# Altium schematic symbol library Communication.SchLib: 5 symbols
Pins are listed as number, name and electrical type; pins without a type are passive.

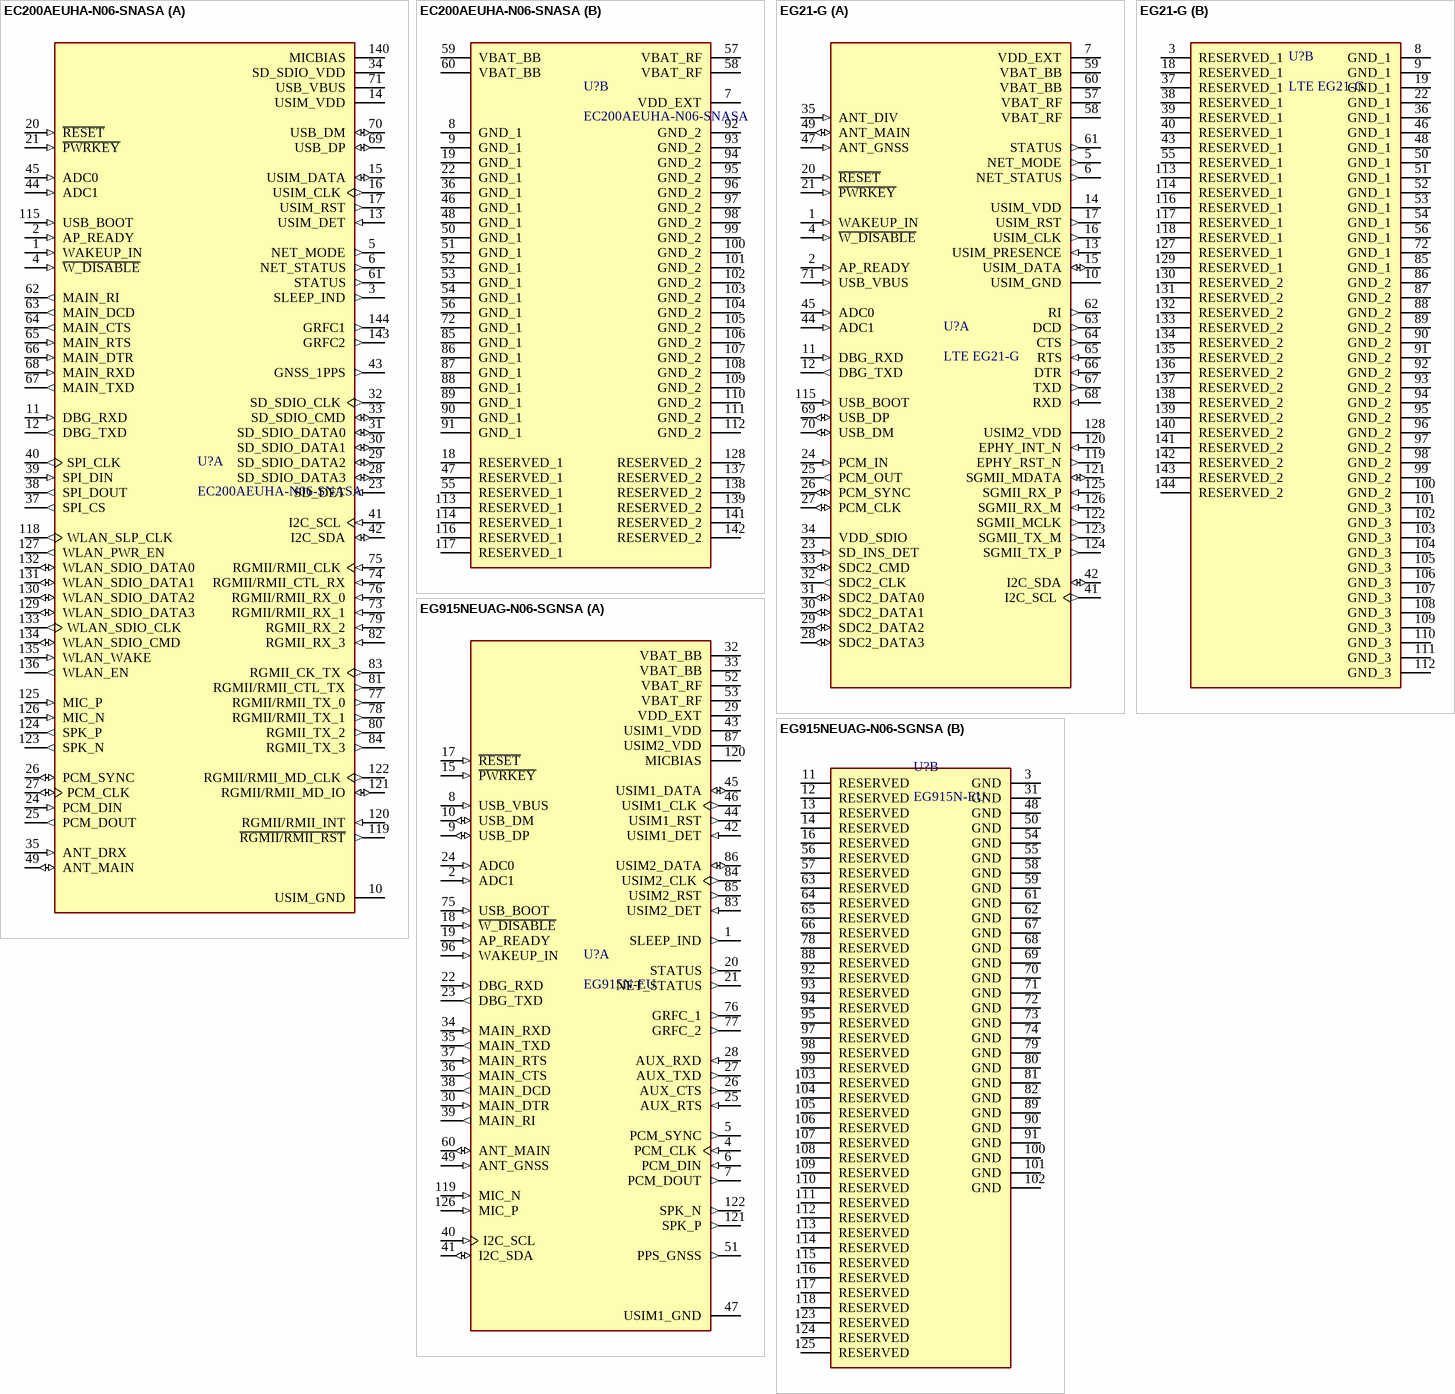
[diagram p0: symbols EC200AEUHA-N06-SNASA to EG915NEUAG-N06-SGNSA]

## EC200AEUHA-N06-SNASA
designator U?
Quectel Wireless Solutions Embedded, 700-960, 1710-2700, 3300-5000, 5G, FPC with holder, -, Spring contact, Screw, 60.1 12.25 10.1; val: EC200AEUHA-N06-SNASA; note: *; sample link: https://www.quectel.com/product/lte-ec200a-series/
footprint XCVR_EC200AEUHA-N06-SNASA
part A pins: 1 WAKEUP_IN (in), 2 AP_READY (in), 3 SLEEP_IND (out), 4 ~{W_DISABLE} (in), 5 NET_MODE (out), 6 NET_STATUS (out), 10 USIM_GND (power), 11 DBG_RXD (in), 12 DBG_TXD (out), 13 USIM_DET (in), 14 USIM_VDD (power), 15 USIM_DATA (io), 16 USIM_CLK (out), 17 USIM_RST (out), 20 ~{RESET} (in), 21 ~{PWRKEY} (in), 23 SD_DET (in), 24 PCM_DIN (in), 25 PCM_DOUT (out), 26 PCM_SYNC (io), 27 PCM_CLK (io), 28 SD_SDIO_DATA3 (io), 29 SD_SDIO_DATA2 (io), 30 SD_SDIO_DATA1 (io), 31 SD_SDIO_DATA0 (io), 32 SD_SDIO_CLK (out), 33 SD_SDIO_CMD (io), 34 SD_SDIO_VDD (power), 35 ANT_DRX (in), 37 SPI_CS (out), 38 SPI_DOUT (out), 39 SPI_DIN (in), 40 SPI_CLK (out), 41 I2C_SCL (in), 42 I2C_SDA (io), 43 GNSS_1PPS (out), 44 ADC1 (in), 45 ADC0 (in), 49 ANT_MAIN (io), 61 STATUS (out), 62 MAIN_RI (out), 63 MAIN_DCD (out), 64 MAIN_CTS (out), 65 MAIN_RTS (in), 66 MAIN_DTR (in), 67 MAIN_TXD (out), 68 MAIN_RXD (in), 69 USB_DP (io), 70 USB_DM (io), 71 USB_VBUS (power), 73 RGMII/RMII_RX_1 (in), 74 RGMII/RMII_CTL_RX (in), 75 RGMII/RMII_CLK (in), 76 RGMII/RMII_RX_0 (in), 77 RGMII/RMII_TX_0 (out), 78 RGMII/RMII_TX_1 (out), 79 RGMII_RX_2 (in), 80 RGMII_TX_2 (out), 81 RGMII/RMII_CTL_TX (out), 82 RGMII_RX_3 (in), 83 RGMII_CK_TX (out), 84 RGMII_TX_3 (out), 115 USB_BOOT (in), 118 WLAN_SLP_CLK (out), 119 ~{RGMII/RMII_RST} (out), 120 RGMII/RMII_INT (in), 121 RGMII/RMII_MD_IO (io), 122 RGMII/RMII_MD_CLK (out), 123 SPK_N (out), 124 SPK_P (out), 125 MIC_P (in), 126 MIC_N (in), 127 WLAN_PWR_EN (out), 129 WLAN_SDIO_DATA3 (io), 130 WLAN_SDIO_DATA2 (io), 131 WLAN_SDIO_DATA1 (io), 132 WLAN_SDIO_DATA0 (io), 133 WLAN_SDIO_CLK (out), 134 WLAN_SDIO_CMD (io), 135 WLAN_WAKE (in), 136 WLAN_EN (out), 140 MICBIAS (power), 143 GRFC2 (out), 144 GRFC1 (out)
part B pins: 7 VDD_EXT (power), 8 GND_1 (power), 9 GND_1 (power), 18 RESERVED_1, 19 GND_1 (power), 22 GND_1 (power), 36 GND_1 (power), 46 GND_1 (power), 47 RESERVED_1, 48 GND_1 (power), 50 GND_1 (power), 51 GND_1 (power), 52 GND_1 (power), 53 GND_1 (power), 54 GND_1 (power), 55 RESERVED_1, 56 GND_1 (power), 57 VBAT_RF (power), 58 VBAT_RF (power), 59 VBAT_BB (power), 60 VBAT_BB (power), 72 GND_1 (power), 85 GND_1 (power), 86 GND_1 (power), 87 GND_1 (power), 88 GND_1 (power), 89 GND_1 (power), 90 GND_1 (power), 91 GND_1 (power), 92 GND_2 (power), 93 GND_2 (power), 94 GND_2 (power), 95 GND_2 (power), 96 GND_2 (power), 97 GND_2 (power), 98 GND_2 (power), 99 GND_2 (power), 100 GND_2 (power), 101 GND_2 (power), 102 GND_2 (power), 103 GND_2 (power), 104 GND_2 (power), 105 GND_2 (power), 106 GND_2 (power), 107 GND_2 (power), 108 GND_2 (power), 109 GND_2 (power), 110 GND_2 (power), 111 GND_2 (power), 112 GND_2 (power), 113 RESERVED_1, 114 RESERVED_1, 116 RESERVED_1, 117 RESERVED_1, 128 RESERVED_2, 137 RESERVED_2, 138 RESERVED_2, 139 RESERVED_2, 141 RESERVED_2, 142 RESERVED_2

## EG21-G
designator U?, comment LTE EG21-G
The EG21-G is an LTE category 1 module in an LGA form factor measuring 29.0mm x 32.0mm x 2.4mm, which meets the 3GPP Release 11 standard. It is compatible with Quectel’s UMTS/HSPA+ UC20 and UC200T modules, and multi-mode LTE Standard EC2x (EC25, EC21, EC20 R2.0 and EC20 R2.1) and EG25-G modules, enabling flexible migration between them.; val: LTE EG21-G; note: *; sample link: https://www.quectel.com/product/lte-eg21-g/
footprint XCVR_EG21-G
part A pins: 1 WAKEUP_IN (in), 2 AP_READY (in), 4 ~{W_DISABLE} (in), 5 NET_MODE (out), 6 NET_STATUS (out), 7 VDD_EXT (power), 10 USIM_GND (power), 11 DBG_RXD (in), 12 DBG_TXD (out), 13 USIM_PRESENCE (in), 14 USIM_VDD (power), 15 USIM_DATA (io), 16 USIM_CLK (out), 17 USIM_RST (out), 20 ~{RESET} (in), 21 ~{PWRKEY} (in), 23 SD_INS_DET (in), 24 PCM_IN (in), 25 PCM_OUT (out), 26 PCM_SYNC (io), 27 PCM_CLK (io), 28 SDC2_DATA3 (io), 29 SDC2_DATA2 (io), 30 SDC2_DATA1 (io), 31 SDC2_DATA0 (io), 32 SDC2_CLK (out), 33 SDC2_CMD (io), 34 VDD_SDIO (power), 35 ANT_DIV (in), 41 I2C_SCL (out), 42 I2C_SDA (io), 44 ADC1 (in), 45 ADC0 (in), 47 ANT_GNSS (in), 49 ANT_MAIN (io), 57 VBAT_RF (power), 58 VBAT_RF (power), 59 VBAT_BB (power), 60 VBAT_BB (power), 61 STATUS (out), 62 RI (out), 63 DCD (out), 64 CTS (out), 65 RTS (in), 66 DTR (in), 67 TXD (out), 68 RXD (in), 69 USB_DP (io), 70 USB_DM (io), 71 USB_VBUS (in), 115 USB_BOOT (in), 119 EPHY_RST_N (out), 120 EPHY_INT_N (in), 121 SGMII_MDATA (io), 122 SGMII_MCLK (out), 123 SGMII_TX_M (out), 124 SGMII_TX_P (out), 125 SGMII_RX_P (in), 126 SGMII_RX_M (in), 128 USIM2_VDD (power)
part B pins: 3 RESERVED_1, 8 GND_1 (power), 9 GND_1 (power), 18 RESERVED_1, 19 GND_1 (power), 22 GND_1 (power), 36 GND_1 (power), 37 RESERVED_1, 38 RESERVED_1, 39 RESERVED_1, 40 RESERVED_1, 43 RESERVED_1, 46 GND_1 (power), 48 GND_1 (power), 50 GND_1 (power), 51 GND_1 (power), 52 GND_1 (power), 53 GND_1 (power), 54 GND_1 (power), 55 RESERVED_1, 56 GND_1 (power), 72 GND_1 (power), 85 GND_1 (power), 86 GND_2 (power), 87 GND_2 (power), 88 GND_2 (power), 89 GND_2 (power), 90 GND_2 (power), 91 GND_2 (power), 92 GND_2 (power), 93 GND_2 (power), 94 GND_2 (power), 95 GND_2 (power), 96 GND_2 (power), 97 GND_2 (power), 98 GND_2 (power), 99 GND_2 (power), 100 GND_2 (power), 101 GND_3 (power), 102 GND_3 (power), 103 GND_3 (power), 104 GND_3 (power), 105 GND_3 (power), 106 GND_3 (power), 107 GND_3 (power), 108 GND_3 (power), 109 GND_3 (power), 110 GND_3 (power), 111 GND_3 (power), 112 GND_3 (power), 113 RESERVED_1, 114 RESERVED_1, 116 RESERVED_1, 117 RESERVED_1, 118 RESERVED_1, 127 RESERVED_1, 129 RESERVED_1, 130 RESERVED_2, 131 RESERVED_2, 132 RESERVED_2, 133 RESERVED_2, 134 RESERVED_2, 135 RESERVED_2, 136 RESERVED_2, 137 RESERVED_2, 138 RESERVED_2, 139 RESERVED_2, 140 RESERVED_2, 141 RESERVED_2, 142 RESERVED_2, 143 RESERVED_2, 144 RESERVED_2

## EG915NEUAG-N06-SGNSA
designator U?, comment EG915N-EU
LTE Cat 1 module; note: Original; val: EG915N-EU; sample link: *
footprint XCVR_EG915NEUAG-N06-SGNSA
part A pins: 1 SLEEP_IND (out), 2 ADC1 (in), 4 PCM_CLK (in), 5 PCM_SYNC (out), 6 PCM_DIN (in), 7 PCM_DOUT (out), 8 USB_VBUS (in), 9 USB_DP (io), 10 USB_DM (io), 15 ~{PWRKEY} (in), 17 ~{RESET} (in), 18 ~{W_DISABLE} (in), 19 AP_READY (in), 20 STATUS (out), 21 NET_STATUS (out), 22 DBG_RXD (in), 23 DBG_TXD (out), 24 ADC0 (in), 25 AUX_RTS (in), 26 AUX_CTS (out), 27 AUX_TXD (out), 28 AUX_RXD (in), 29 VDD_EXT (power), 30 MAIN_DTR (in), 32 VBAT_BB (power), 33 VBAT_BB (power), 34 MAIN_RXD (in), 35 MAIN_TXD (out), 36 MAIN_CTS (out), 37 MAIN_RTS (in), 38 MAIN_DCD (out), 39 MAIN_RI (out), 40 I2C_SCL (in), 41 I2C_SDA (io), 42 USIM1_DET (in), 43 USIM1_VDD (power), 44 USIM1_RST (out), 45 USIM1_DATA (io), 46 USIM1_CLK (out), 47 USIM1_GND (power), 49 ANT_GNSS (in), 51 PPS_GNSS (out), 52 VBAT_RF (power), 53 VBAT_RF (power), 60 ANT_MAIN (io), 75 USB_BOOT (in), 76 GRFC_1 (out), 77 GRFC_2 (out), 83 USIM2_DET (in), 84 USIM2_CLK (out), 85 USIM2_RST (out), 86 USIM2_DATA (io), 87 USIM2_VDD (power), 96 WAKEUP_IN (in), 119 MIC_N (in), 120 MICBIAS (power), 121 SPK_P (out), 122 SPK_N (out), 126 MIC_P (in)
part B pins: 3 GND (power), 11 RESERVED, 12 RESERVED, 13 RESERVED, 14 RESERVED, 16 RESERVED, 31 GND (power), 48 GND (power), 50 GND (power), 54 GND (power), 55 GND (power), 56 RESERVED, 57 RESERVED, 58 GND (power), 59 GND (power), 61 GND (power), 62 GND (power), 63 RESERVED, 64 RESERVED, 65 RESERVED, 66 RESERVED, 67 GND (power), 68 GND (power), 69 GND (power), 70 GND (power), 71 GND (power), 72 GND (power), 73 GND (power), 74 GND (power), 78 RESERVED, 79 GND (power), 80 GND (power), 81 GND (power), 82 GND (power), 88 RESERVED, 89 GND (power), 90 GND (power), 91 GND (power), 92 RESERVED, 93 RESERVED, 94 RESERVED, 95 RESERVED, 97 RESERVED, 98 RESERVED, 99 RESERVED, 100 GND (power), 101 GND (power), 102 GND (power), 103 RESERVED, 104 RESERVED, 105 RESERVED, 106 RESERVED, 107 RESERVED, 108 RESERVED, 109 RESERVED, 110 RESERVED, 111 RESERVED, 112 RESERVED, 113 RESERVED, 114 RESERVED, 115 RESERVED, 116 RESERVED, 117 RESERVED, 118 RESERVED, 123 RESERVED, 124 RESERVED, 125 RESERVED

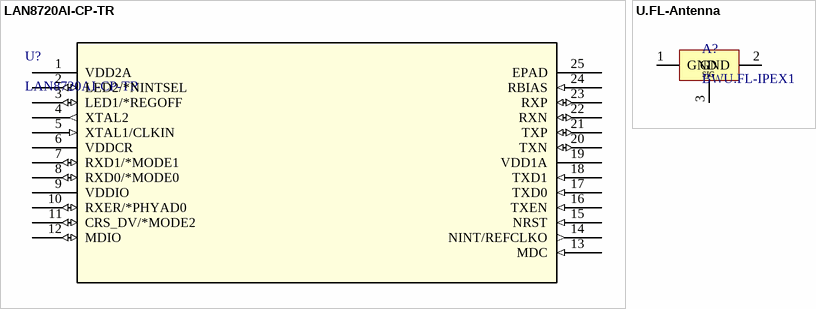
[diagram p1: symbols LAN8720AI-CP-TR to U.FL-Antenna]

## LAN8720AI-CP-TR
designator U?
Small Footprint RMII 10/100 Ethernet Transceiver with HP Auto-MDIX Support; val: LAN8720AI-CP-TR; note: *; sample link: https://www.lcsc.com/product-detail/C17146.html?s_z=n_q_LAN8720AI-CP-TR&spm=wm.fly.bg.0.xh&lcsc_vid=FFlcBAcARVBYX1YFEgNeUVYCQAQMV1RWTgNcX1VSElIxVlNRTlVdV1xXTllaUzsOAxUeFF5JWBYZEEoKFBINSQcJGk4eFQsCAgIaSgADAwAHC0slRVdbVV1SQ08GEwkK; unit price: $ 1.0384
footprint QFN24-6X6_MC_MCH
pins: 1 VDD2A (power), 2 LED2/*NINTSEL (io), 3 LED1/*REGOFF (io), 4 XTAL2 (out), 5 XTAL1/CLKIN (in), 6 VDDCR (power), 7 RXD1/*MODE1 (io), 8 RXD0/*MODE0 (io), 9 VDDIO (power), 10 RXER/*PHYAD0 (io), 11 CRS_DV/*MODE2 (io), 12 MDIO (io), 13 MDC (in), 14 NINT/REFCLKO (out), 15 NRST (in), 16 TXEN (in), 17 TXD0 (in), 18 TXD1 (in), 19 VDD1A (power), 20 TXN (io), 21 TXP (io), 22 RXN (io), 23 RXP (io), 24 RBIAS (in), 25 EPAD

## U.FL-Antenna
designator A?, comment BWU.FL-IPEX1
U.FL Antenna coax receptacle - 50Ohm impedance; val: BWU.FL-IPEX1; note: *; sample link: https://www.lcsc.com/product-detail/C5137195.html?s_z=n_U.FL%2520%28IPEX%2520MHF1%29; unit price: $ 1.0384
footprint U.FL-Antenna
pins: 1 GND, 2 GND, 3 SIG